# EAGLE library part GPS_C_NH_CLP (library SUCHAI)
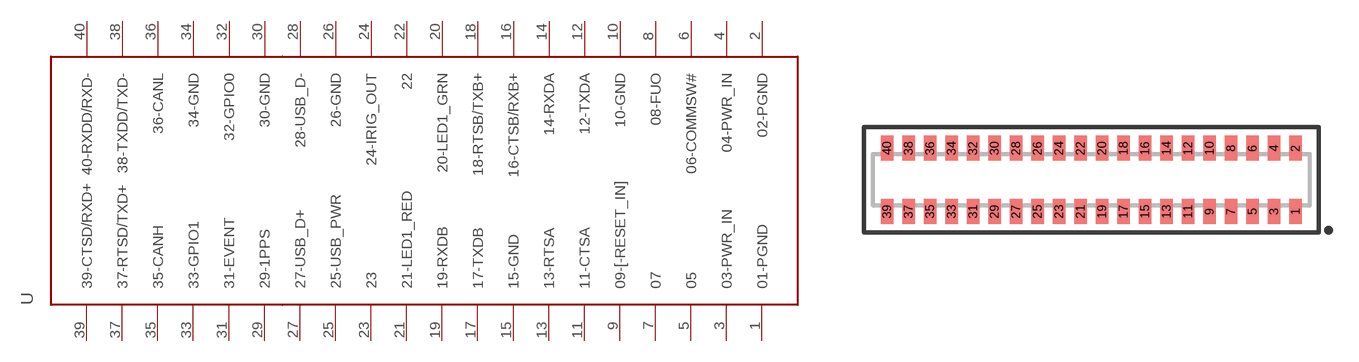
[diagram p0: symbol with the pads of CLP-120-02-X-D; footprint CLP-120-02-X-D]

Designator prefix -

## GPS_C_NH_CLP  [CLP-120-02-X-D]
1  01-PGND
2  02-PGND
3  03-PWR_IN
4  04-PWR_IN
5  05
6  06-COMMSW#
7  07
8  08-FUO
9  09-[-RESET_IN]
10  10-GND
11  11-CTSA
12  12-TXDA
13  13-RTSA
14  14-RXDA
15  15-GND
16  16-CTSB/RXB+
17  17-TXDB
18  18-RTSB/TXB+
19  19-RXDB
20  20-LED1_GRN
21  21-LED1_RED
22  22
23  23
24  24-IRIG_OUT
25  25-USB_PWR
26  26-GND
27  27-USB_D+
28  28-USB_D-
29  29-1PPS
30  30-GND
31  31-EVENT
32  32-GPIO0
33  33-GPIO1
34  34-GND
35  35-CANH
36  36-CANL
37  37-RTSD/TXD+
38  38-TXDD/TXD-
39  39-CTSD/RXD+
40  40-RXDD/RXD-

## Footprint CLP-120-02-X-D (pad centres in mm)
Pad patter for Samtec's CLP-120-02-X-D connector Rows : 2 Pads per row : 20 Pitch (bw pads) : 1.27 mm / 0.05 inches Distance (bw rows) : 3.81 mm / 0.15 inches
smd 0.74 x 1.47: 1 12.065,-1.87; 2 12.065,1.87; 3 10.795,-1.87; 4 10.795,1.87; 5 9.525,-1.87; 6 9.525,1.87; 7 8.255,-1.87; 8 8.255,1.87; 9 6.985,-1.87; 10 6.985,1.87; 11 5.715,-1.87; 12 5.715,1.87; 13 4.445,-1.87; 14 4.445,1.87; 15 3.175,-1.87; 16 3.175,1.87; 17 1.905,-1.87; 18 1.905,1.87; 19 0.635,-1.87; 20 0.635,1.87; 21 -0.635,-1.87; 22 -0.635,1.87; 23 -1.905,-1.87; 24 -1.905,1.87; 25 -3.175,-1.87; 26 -3.175,1.87; 27 -4.445,-1.87; 28 -4.445,1.87; 29 -5.715,-1.87; 30 -5.715,1.87; 31 -6.985,-1.87; 32 -6.985,1.87; 33 -8.255,-1.87; 34 -8.255,1.87; 35 -9.525,-1.87; 36 -9.525,1.87; 37 -10.795,-1.87; 38 -10.795,1.87; 39 -12.065,-1.87; 40 -12.065,1.87